# EAGLE library part 68713014022 (library Eagle_FPC_CONNECTOR_AND_FFC_CAB (rev18c))
WR-FPC 0.5mm SMT ZIF Horizontal Top Contact, 30 Pins=>Code : Con_FPC_ZIF_0.50_68713014022 <http://katalog.we-online.de/media/images/eican/Con_FPC_ZIF_0.50_6871xx14022_pf2.jpg> Details see: http://katalog.we-online.de/en/em/687_1xx_140_22 Created 2014-07-09, Karrer Zheng 2014 (C) Würth Elektronik
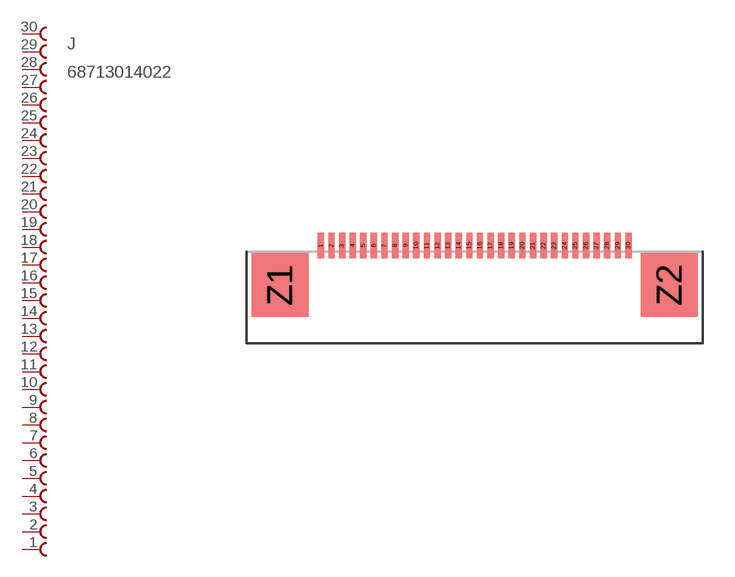
[diagram p28: symbol with the pads of 68713014022; footprint 68713014022]

Designator prefix J

## 68713014022  [68713014022]
1  30  pas
2  29  pas
3  28  pas
4  27  pas
5  26  pas
6  25  pas
7  24  pas
8  23  pas
9  22  pas
10  21  pas
11  20  pas
12  19  pas
13  18  pas
14  17  pas
15  16  pas
16  15  pas
17  14  pas
18  13  pas
19  12  pas
20  11  pas
21  10  pas
22  9  pas
23  8  pas
24  7  pas
25  6  pas
26  5  pas
27  4  pas
28  3  pas
29  2  pas
30  1  pas

## Footprint 68713014022 (pad centres in mm)
WR-FPC 0.5mm SMT ZIF Horizontal Top Contact, 30 Pins
smd 0.3 x 1.2: 1 -7.25,1.86; 2 -6.75,1.86; 3 -6.25,1.86; 4 -5.75,1.86; 5 -5.25,1.86; 6 -4.75,1.86; 7 -4.25,1.86; 8 -3.75,1.86; 9 -3.25,1.86; 10 -2.75,1.86; 11 -2.25,1.86; 12 -1.75,1.86; 13 -1.25,1.86; 14 -0.75,1.86; 15 -0.25,1.86; 16 0.25,1.86; 17 0.75,1.86; 18 1.25,1.86; 19 1.75,1.86; 20 2.25,1.86; 21 2.75,1.86; 22 3.25,1.86; 23 3.75,1.86; 24 4.25,1.86; 25 4.75,1.86; 26 5.25,1.86; 27 5.75,1.86; 28 6.25,1.86; 29 6.75,1.86; 30 7.25,1.86
smd 2.7 x 3: Z1 -9.18,0; Z2 9.18,0